# Altium integrated library dom-key.IntLib: 4 symbols
Pins are listed as number, name and electrical type; pins without a type are passive.

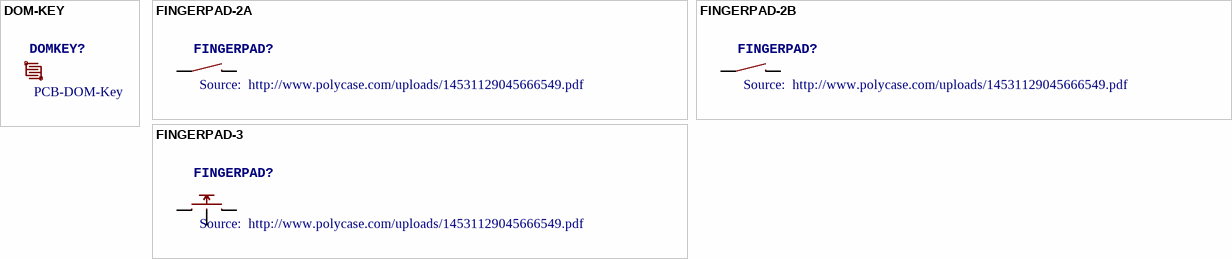
[diagram p0: symbols DOM-KEY to FINGERPAD-3]

## DOM-KEY
designator DOMKEY?, comment PCB-DOM-Key
footprint DOM-KEY
pins: 1, 2

## FINGERPAD-2A
designator FINGERPAD?, comment Source:  http://www.polycase.com/uploads/14531129045666549.pdf
footprint FINGERPAD-2A
pins: 1, 2

## FINGERPAD-2B
designator FINGERPAD?, comment Source:  http://www.polycase.com/uploads/14531129045666549.pdf
footprint FINGERPAD-2B
pins: 1, 2

## FINGERPAD-3
designator FINGERPAD?, comment Source:  http://www.polycase.com/uploads/14531129045666549.pdf
footprint FINGERPAD-3
pins: 1, 2A 2B 2, 3